# Altium schematic symbol library ABS07-32.768KHZ-9-1-T.SchLib: 1 symbol
Pins are listed as number, name and electrical type; pins without a type are passive.

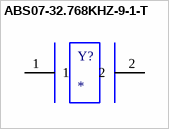
[diagram p0: symbol ABS07-32.768KHZ-9-1-T]

## ABS07-32.768KHZ-9-1-T
designator Y?
ABS07 Series 32.768 kHz Â±20 ppm 12.5 pF -40 to +85 C SMT Low Profile Crystal; MP: ABS07-32.768KHZ-9-1-T; MF: {'manufacturer': u'Abracon'}; Package: None; Price: None; Value: *; Availability: Unavailable
footprint XTAL320X150X90
pins: 1, 2